# Altium schematic symbol library Schlib1.SchLib: 1 symbol
Pins are listed as number, name and electrical type; pins without a type are passive.

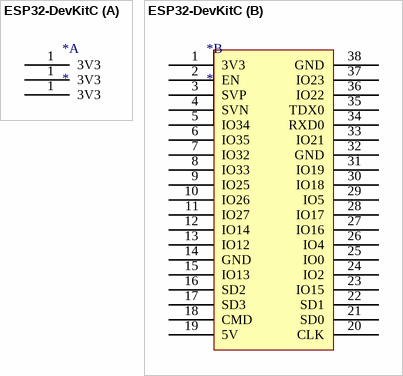
[diagram p0: symbol ESP32-DevKitC]

## ESP32-DevKitC
designator *
part A pins: 1 3V3, 1 3V3, 1 3V3
part B pins: 1 3V3, 2 EN, 3 SVP, 4 SVN, 5 IO34, 6 IO35, 7 IO32, 8 IO33, 9 IO25, 10 IO26, 11 IO27, 12 IO14, 13 IO12, 14 GND, 15 IO13, 16 SD2, 17 SD3, 18 CMD, 19 5V, 20 CLK, 21 SD0, 22 SD1, 23 IO15, 24 IO2, 25 IO0, 26 IO4, 27 IO16, 28 IO17, 29 IO5, 30 IO18, 31 IO19, 32 GND, 33 IO21, 34 RXD0, 35 TDX0, 36 IO22, 37 IO23, 38 GND